# Altium footprint library 693043020611.PcbLib: 1 footprints
Each footprint in its own frame and in the unit in brackets; x right, y up, seen from the top. Pads: shape width x height; smd on the part's side, far side on the other; paste and mask are expansions set on the pad; w line width, h text height; cw(c..) or ccw(c..) is an arc to the next point about the centre after c.
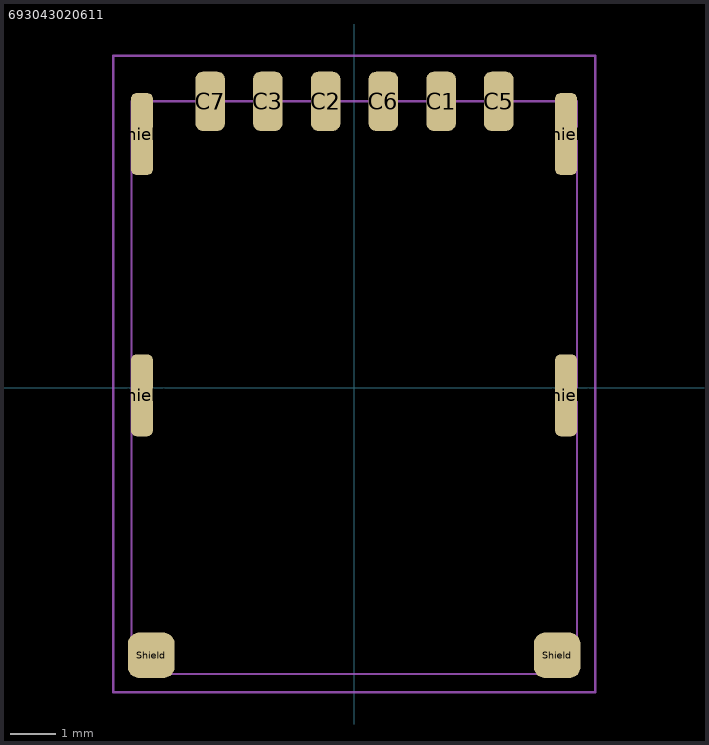
[diagram p0: the footprint, top view; thin cyan lines are the x and y axes]

## 693043020611 [mm]
pads (12):
  rrect50% 0.65x1.3 smd: C1(1.91,6.3) C2(-0.63,6.3) C3(-1.9,6.3) C5(3.18,6.3) C6(0.64,6.3) C7(-3.17,6.3)
  rrect50% 0.48x1.8 smd: Shield(-4.67,-0.17) Shield(-4.67,5.58) Shield(4.66,-0.17) Shield(4.66,5.58)
  rrect50% 1.03x1 smd: Shield(-4.465,-5.89) Shield(4.465,-5.89)
Top Assembly:
  lines w0.05: -4.9,-6.3 -4.9,6.3 4.9,6.3 4.9,-6.3 -4.9,-6.3
Top Courtyard:
  lines w0.05: -5.3,-6.7 -5.3,7.3 5.3,7.3 5.3,-6.7 -5.3,-6.7
3D body "693043020611.stp": height 1.2, standoff -0.01, extent -4.925,-6.25 4.936,6.25